# EAGLE library part DS3231_MODULE (library Underwater-Camera-v2.0)
DS3231 RTC Breakout Module
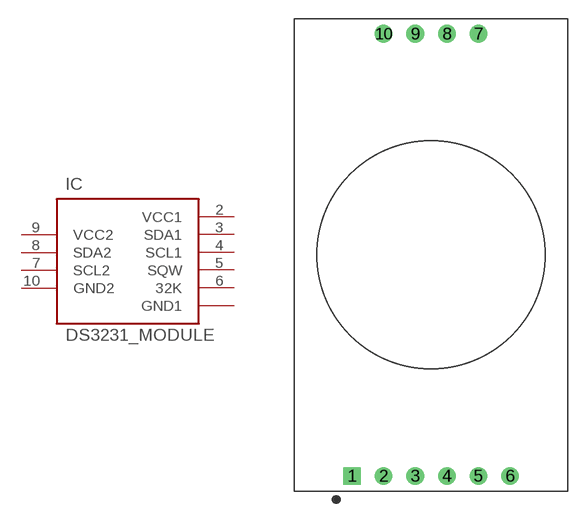
[diagram p15: symbol with the pads of DS3231_MODULE; footprint DS3231_MODULE]

Designator prefix IC

## DS3231_MODULE  [DS3231_MODULE]
1  GND1
2  VCC1
3  SDA1
4  SCL1
5  SQW
6  32K
7  SCL2
8  SDA2
9  VCC2
10  GND2

## Footprint DS3231_MODULE (pad centres in mm)
DS3231 RTC Breakout Module Symbol
drill 0.8 pad 1.422 square: 1 -6.35,-17.78
drill 0.8 pad 1.422: 2 -3.81,-17.78; 3 -1.27,-17.78; 4 1.27,-17.78; 5 3.81,-17.78; 6 6.35,-17.78; 7 3.81,17.78; 8 1.27,17.78; 9 -1.27,17.78; 10 -3.81,17.78